# EAGLE library part IS25LP032D (library df4iah_memory)
ISSI IS25LP032D 32Mb SERIAL FLASH MEMORY WITH 133MHZ MULTI I/O SPI & QUAD I/O QPI DTR INTERFACE
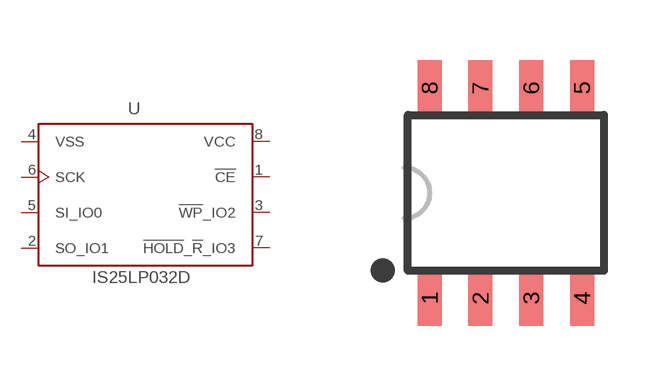
[diagram p80: symbol with the pads of SOIC8_150MIL; footprint SOIC8_150MIL]

Designator prefix U

## IS25LP032D  [SOIC8_150MIL]
1  !CE  in
2  SO_IO1
3  !WP!_IO2
4  VSS  pwr
5  SI_IO0
6  SCK  in
7  !HOLD!_!R!_IO3
8  VCC  pwr

## Footprint SOIC8_150MIL (pad centres in mm)
Plastic Small Outline - SOIC8 150 mils CASE 751BD
smd 0.6 x 1.4: 1 -1.905,-2.63; 2 -0.635,-2.63; 3 0.635,-2.63; 4 1.905,-2.63; 5 1.905,2.63; 6 0.635,2.63; 7 -0.635,2.63; 8 -1.905,2.63